# Altium schematic symbol library STTH2R06.Schlib: 1 symbol
Pins are listed as number, name and electrical type; pins without a type are passive.

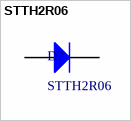
[diagram p0: symbol STTH2R06]

## STTH2R06
designator D?
Ultra Fast Recovery Rectifiers
pins: 1 A, 2 K